# Altium schematic symbol library IRS2101.SchLib: 1 symbol
Pins are listed as number, name and electrical type; pins without a type are passive.

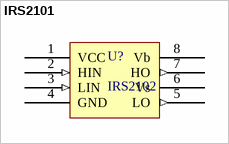
[diagram p0: symbol IRS2101]

## IRS2101
designator U?, comment IRS2102
FET Gate Driver
footprint SOIC127P600X175-8N (SOIC, 8-Leads, Body 5.0x4.0mm (max), Pitch 1.27mm, IPC Medium Density)
pins: 1 VCC, 2 HIN (in), 3 LIN (in), 4 GND (power), 5 LO (out), 6 Vs, 7 HO (out), 8 Vb